# EAGLE library part SA36-11GWA (library SA36-11GWA)
None
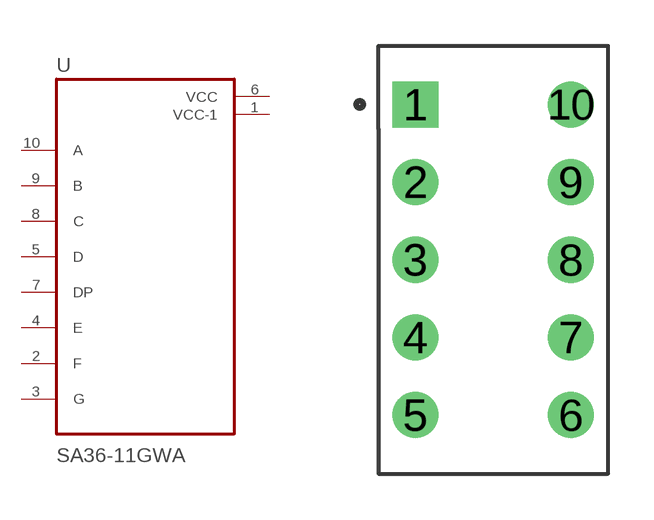
[diagram p0: symbol with the pads of KINGBRIGHT_SC36-11SRWA; footprint KINGBRIGHT_SC36-11SRWA]

Designator prefix U

## SA36-11GWA (Availability: Unavailable; Description: Character LED Display Module Green 7-Segment 1 Character Common Anode 2.2V 20mA 0.551 H x 0.295 W x 0.335 D _14.00mm x 7.50mm x 8.50mm_ 10-DIP _0.200, 5.08mm_; MF: Kingbright; MP: SA36-11GWA; Package: DIP-10 Kingbright; Price: None)  [KINGBRIGHT_SC36-11SRWA]
1  VCC-1  pwr
2  F
3  G
4  E
5  D
6  VCC  pwr
7  DP
8  C
9  B
10  A

## Footprint KINGBRIGHT_SC36-11SRWA (pad centres in mm)
drill 1 square: 1 -2.54,5.08
drill 1: 2 -2.54,2.54; 3 -2.54,0; 4 -2.54,-2.54; 5 -2.54,-5.08; 6 2.54,-5.08; 7 2.54,-2.54; 8 2.54,0; 9 2.54,2.54; 10 2.54,5.08